# Altium schematic symbol library Capacitor.SchLib: 2 symbols
Pins are listed as number, name and electrical type; pins without a type are passive.

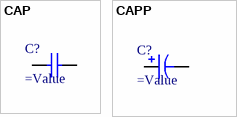
[diagram p0: symbols CAP to CAPP]

## CAP
designator C?
=Description
pins: 1, 2

## CAPP
designator C?
=Description
pins: 1 +, 2 -